# EAGLE library part USB (library ExitControl_v2_master_library)
WR-COM SMT Horizontal 5 Contacts Mini USB Typ B
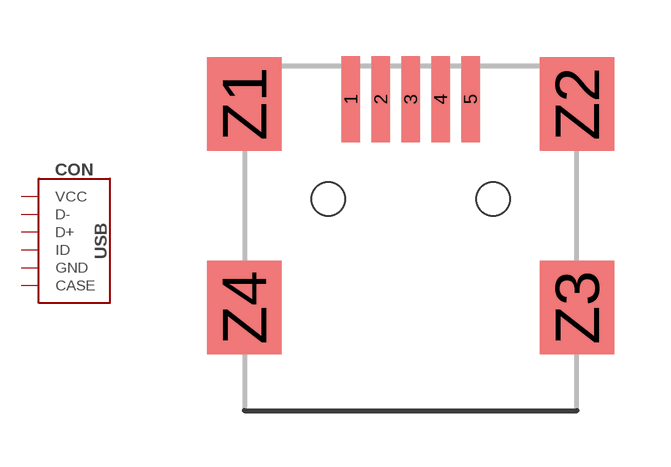
[diagram p3: symbol with the pads of USB_MINI_W_PEGS; footprint USB_MINI_W_PEGS]

Designator prefix CON

## USB-MINI_W_PEGS  [USB_MINI_W_PEGS]
1  VCC  pas
2  D-  pas
3  D+  pas
4  ID  pas
5  GND  pas
Z1  CASE  pas
Z2  CASE  pas
Z3  CASE  pas
Z4  CASE  pas

## Footprint USB_MINI_W_PEGS (pad centres in mm)
WR-COM SMT Horizontal 5 Contacts Mini USB Typ B
smd 0.5 x 2.3: 1 -1.6,5.685; 2 -0.8,5.685; 3 0,5.685; 4 0.8,5.685; 5 1.6,5.685
smd 2 x 2.5: Z1 -4.45,5.56; Z2 4.45,5.56; Z3 4.45,0.11; Z4 -4.45,0.11
hole 0.9 at -2.2,3.01
hole 0.9 at 2.2,3.01